# Altium schematic symbol library Texas_Instruments_SN65HVD231DR.SchLib: 1 symbol
Pins are listed as number, name and electrical type; pins without a type are passive.

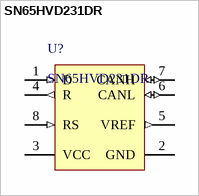
[diagram p0: symbol SN65HVD231DR]

## SN65HVD231DR
designator U?
3.3V CAN Transceiver with Sleep Mode, 17 mA, 3.3 V, -40 to 85 degC, 8-pin SOIC (D), Green (RoHS & no Sb/Br); Manufacturer: Texas Instruments; Supply Voltage(s)(V): 3.3; Receivers Per Package: 1; Transient Pulse Protection(V): -25 to 25; Rating: Catalog; ICC(Max)(mA): 17; Isolated: No; Eco-Plan: Green (RoHS & no Sb/Br); PartNumber: SN65HVD231DR; SubFamily: CAN; ComponentLink1Description: Datasheet; DatasheetVersion: SLOS346K; ComponentLink1URL: http://www.ti.com/general/docs/lit/getliterature.tsp?genericPartNumber=SN65HVD231&fileType=pdf; Code_JEDEC: MS-012AA; Footprint: PCA82C250; PackageReference: D0008A; Drivers Per Package: 1; Low Power Mode: Sleep; PackageVersion: revM, Jun-2011; Features: Bus Wake Up; Mounting Technology: Surface Mount; PackageDescription: 8-Pin Plastic Small Outline Integrated Circuit, 4.9 x 3.9 mm, Pitch 1.27 mm Pitch
footprint D0008A_N
footprint D0008A_M
footprint D0008A_L
pins: 1 D (in) "Driver input", 2 GND (power) "Ground", 3 VCC (power) "Supply voltage", 4 R (out) "Receiver output", 5 VREF (out) "Reference output", 6 CANL (io) "Low bus output", 7 CANH (io) "High bus output", 8 RS (in) "Standby/slope control"